# Altium footprint library Passivos_Ftp.PcbLib: 36 footprints (part 2 of 3)
Each footprint in its own frame and in the unit in brackets; x right, y up, seen from the top. Pads: shape width x height; smd on the part's side, far side on the other; paste and mask are expansions set on the pad; w line width, h text height; cw(c..) or ccw(c..) is an arc to the next point about the centre after c.
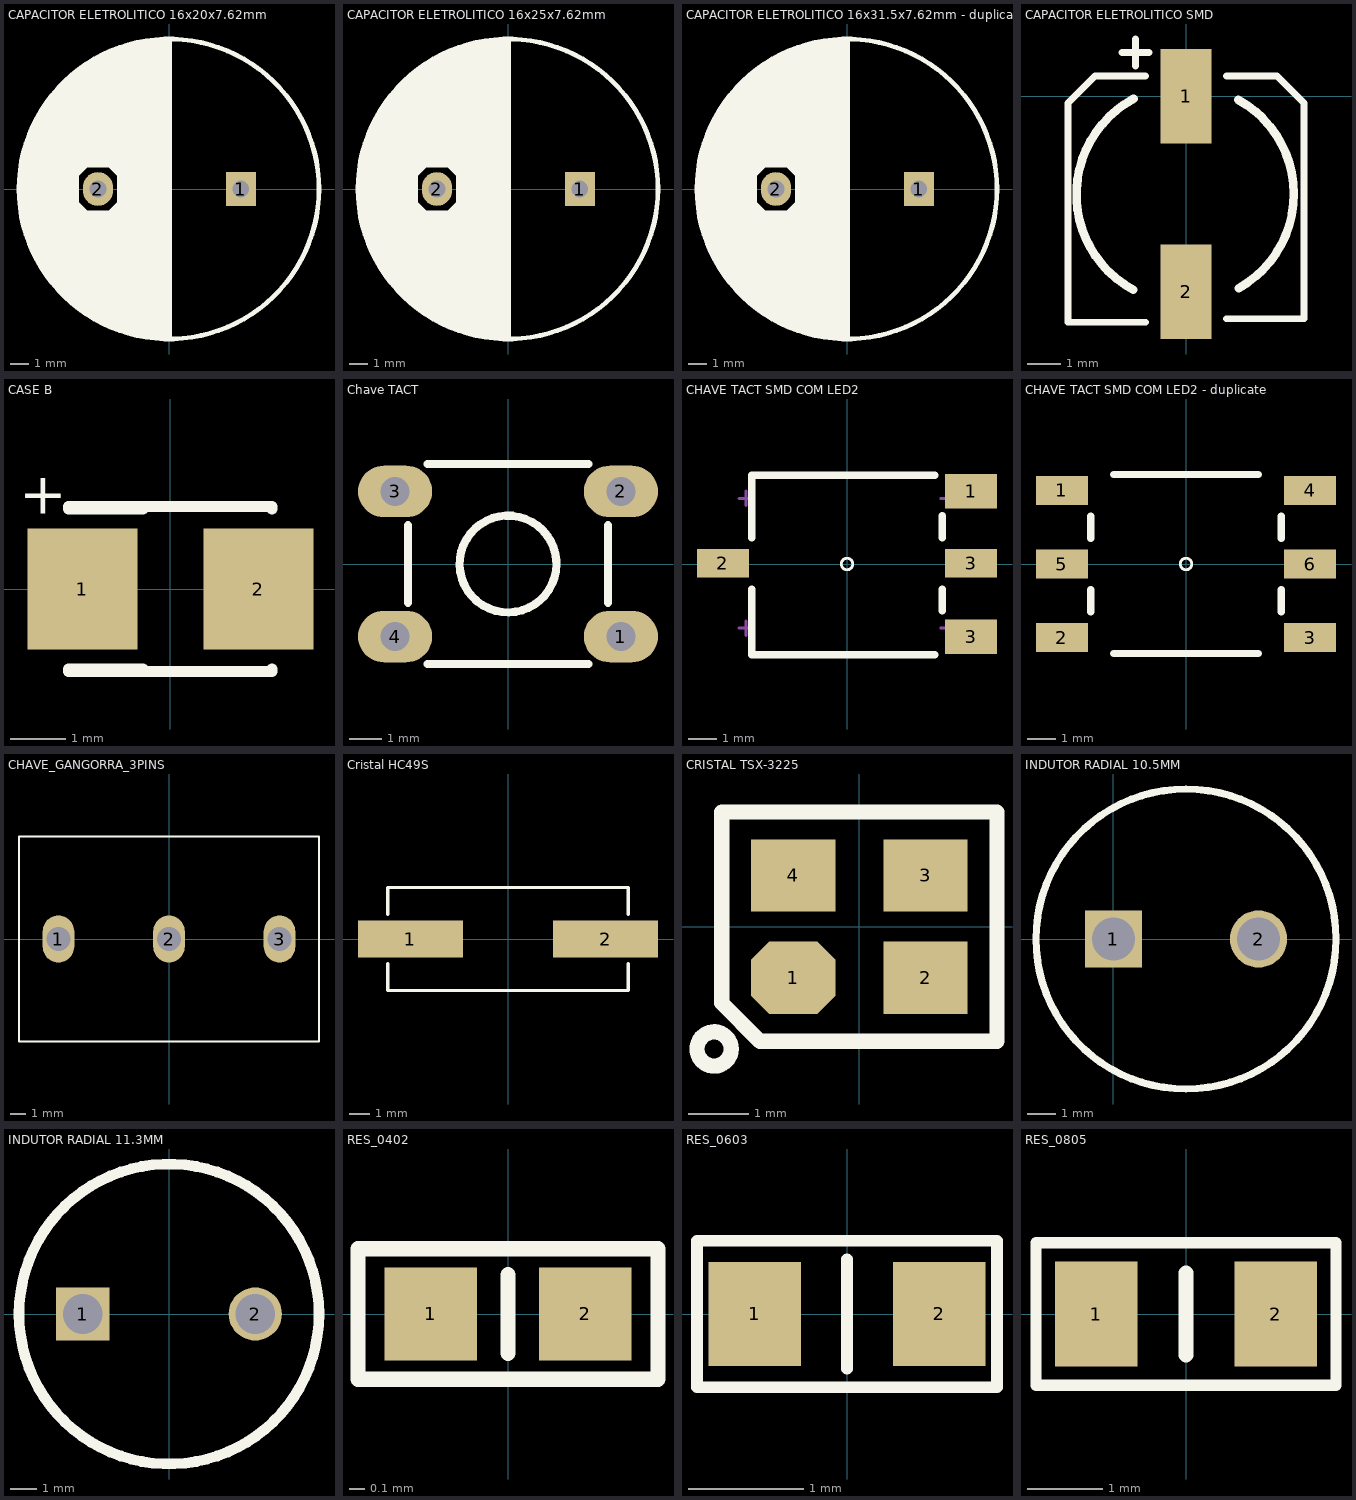
[diagram p1: the footprints below, top view; thin cyan lines are the x and y axes]

## CAPACITOR ELETROLITICO 16x20x7.62mm [mm] "Radial Capacitor 16x20x5.08mm"
height 20
pads (2):
  rect 1.6x1.8 hole 0.9: 1(3.81,0)
  oval 1.6x1.8 hole 0.9: 2(-3.81,0)
Top Overlay:
  circle w0.254: c-0.02,0 r8
  region: 0,-8 0,0 -2.667,0 -2.667,-0.762 -3.175,-1.27 -4.445,-1.27 -4.953,-0.762 -4.953,0.762 -4.445,1.27 -3.176,1.27 -2.667,0.761 -2.667,0 0,0 0,8 -0.889,8.001 -1.016,7.874 -1.778,7.874 -1.905,7.747 -2.159,7.747 -2.286,7.62 -2.667,7.62 -2.794,7.493 -2.921,7.493 -3.048,7.366 -3.302,7.366 -3.556,7.112 -3.81,7.112 -4.191,6.731 -4.445,6.731 -4.953,6.223 -5.08,6.223 -6.477,4.826 -6.477,4.572 -6.985,4.064 -6.985,3.81 -7.239,3.556 -7.239,3.302 -7.493,3.048 -7.493,2.667 -7.747,2.413 -7.747,1.778 -7.874,1.651 -7.874,1.016 -8.001,0.889 -8.001,-1.016 -7.874,-1.143 -7.874,-1.778 -7.747,-1.905 -7.747,-2.286 -7.62,-2.286 -7.62,-2.667 -7.493,-2.667 -7.493,-3.048 -7.366,-3.048 -7.366,-3.302 -7.239,-3.302 -7.239,-3.556 -7.112,-3.556 -7.112,-3.683 -6.985,-3.81 -6.985,-4.064 -6.858,-4.064 -6.858,-4.191 -6.731,-4.191 -6.731,-4.445 -6.35,-4.826 -6.35,-4.953 -4.826,-6.477 -4.572,-6.477 -4.064,-6.985 -3.81,-6.985 -3.556,-7.239 -3.302,-7.239 -3.048,-7.493 -2.794,-7.493 -2.667,-7.62 -2.286,-7.62 -2.159,-7.747 -1.905,-7.747 -1.778,-7.874 -1.27,-7.874 -1.143,-8.001
  lines w0.254: 0,-8 0,8 ; -4.953,-0.762 -4.445,-1.27 -3.175,-1.27 -2.667,-0.762 -2.667,0.762 -3.175,1.27 -4.445,1.27 -4.953,0.762 -4.953,-0.762
3D body: height 20.06, standoff -2.95, extent -8.01,-8 8,8

## CAPACITOR ELETROLITICO 16x25x7.62mm [mm] "Radial Capacitor 16x25x7.62mm"
height 25
pads (2):
  rect 1.6x1.8 hole 0.9: 1(3.81,0)
  oval 1.6x1.8 hole 0.9: 2(-3.81,0)
Top Overlay:
  circle w0.254: c-0.02,0 r8
  region: 0,-8 0,0 -2.667,0 -2.667,-0.762 -3.175,-1.27 -4.445,-1.27 -4.953,-0.762 -4.953,0.762 -4.445,1.27 -3.176,1.27 -2.667,0.761 -2.667,0 0,0 0,8 -0.889,8.001 -1.016,7.874 -1.778,7.874 -1.905,7.747 -2.159,7.747 -2.286,7.62 -2.667,7.62 -2.794,7.493 -2.921,7.493 -3.048,7.366 -3.302,7.366 -3.556,7.112 -3.81,7.112 -4.191,6.731 -4.445,6.731 -4.953,6.223 -5.08,6.223 -6.477,4.826 -6.477,4.572 -6.985,4.064 -6.985,3.81 -7.239,3.556 -7.239,3.302 -7.493,3.048 -7.493,2.667 -7.747,2.413 -7.747,1.778 -7.874,1.651 -7.874,1.016 -8.001,0.889 -8.001,-1.016 -7.874,-1.143 -7.874,-1.778 -7.747,-1.905 -7.747,-2.286 -7.62,-2.286 -7.62,-2.667 -7.493,-2.667 -7.493,-3.048 -7.366,-3.048 -7.366,-3.302 -7.239,-3.302 -7.239,-3.556 -7.112,-3.556 -7.112,-3.683 -6.985,-3.81 -6.985,-4.064 -6.858,-4.064 -6.858,-4.191 -6.731,-4.191 -6.731,-4.445 -6.35,-4.826 -6.35,-4.953 -4.826,-6.477 -4.572,-6.477 -4.064,-6.985 -3.81,-6.985 -3.556,-7.239 -3.302,-7.239 -3.048,-7.493 -2.794,-7.493 -2.667,-7.62 -2.286,-7.62 -2.159,-7.747 -1.905,-7.747 -1.778,-7.874 -1.27,-7.874 -1.143,-8.001
  lines w0.254: 0,-8 0,8 ; -4.953,-0.762 -4.445,-1.27 -3.175,-1.27 -2.667,-0.762 -2.667,0.762 -3.175,1.27 -4.445,1.27 -4.953,0.762 -4.953,-0.762
3D body: height 25.01, standoff -3, extent -8.01,-8 8,8

## CAPACITOR ELETROLITICO 16x31.5x7.62mm - duplicate [mm] "Radial Capacitor 16x31.5x7.62mm"
height 31.5
pads (2):
  rect 1.6x1.8 hole 0.9: 1(3.81,0)
  oval 1.6x1.8 hole 0.9: 2(-3.81,0)
Top Overlay:
  circle w0.254: c-0.02,0 r8
  region: 0,-8 0,0 -2.667,0 -2.667,-0.762 -3.175,-1.27 -4.445,-1.27 -4.953,-0.762 -4.953,0.762 -4.445,1.27 -3.176,1.27 -2.667,0.761 -2.667,0 0,0 0,8 -0.889,8.001 -1.016,7.874 -1.778,7.874 -1.905,7.747 -2.159,7.747 -2.286,7.62 -2.667,7.62 -2.794,7.493 -2.921,7.493 -3.048,7.366 -3.302,7.366 -3.556,7.112 -3.81,7.112 -4.191,6.731 -4.445,6.731 -4.953,6.223 -5.08,6.223 -6.477,4.826 -6.477,4.572 -6.985,4.064 -6.985,3.81 -7.239,3.556 -7.239,3.302 -7.493,3.048 -7.493,2.667 -7.747,2.413 -7.747,1.778 -7.874,1.651 -7.874,1.016 -8.001,0.889 -8.001,-1.016 -7.874,-1.143 -7.874,-1.778 -7.747,-1.905 -7.747,-2.286 -7.62,-2.286 -7.62,-2.667 -7.493,-2.667 -7.493,-3.048 -7.366,-3.048 -7.366,-3.302 -7.239,-3.302 -7.239,-3.556 -7.112,-3.556 -7.112,-3.683 -6.985,-3.81 -6.985,-4.064 -6.858,-4.064 -6.858,-4.191 -6.731,-4.191 -6.731,-4.445 -6.35,-4.826 -6.35,-4.953 -4.826,-6.477 -4.572,-6.477 -4.064,-6.985 -3.81,-6.985 -3.556,-7.239 -3.302,-7.239 -3.048,-7.493 -2.794,-7.493 -2.667,-7.62 -2.286,-7.62 -2.159,-7.747 -1.905,-7.747 -1.778,-7.874 -1.27,-7.874 -1.143,-8.001
  lines w0.254: 0,-8 0,8 ; -4.953,-0.762 -4.445,-1.27 -3.175,-1.27 -2.667,-0.762 -2.667,0.762 -3.175,1.27 -4.445,1.27 -4.953,0.762 -4.953,-0.762
3D body: height 31.61, standoff -2.9, extent -8.01,-8 8,8

## CAPACITOR ELETROLITICO SMD [mm]
pads (2):
  rect 1.5x2.8 smd: 1(0,0) 2(0,-5.8)
Top Overlay:
  lines w0.2: -3.5,-0.2 -3.5,-6.7 -1.2,-6.7 ; -1.9,1.3 -1.1,1.3 ; -1.5,0.9 -1.5,1.7 ; 1.2,-6.6 3.5,-6.6 ; 3.5,-6.55 3.5,-0.2
  lines w0.203: -3.5,-0.2 -2.7,0.6 -1.2,0.6 ; 1.2,0.6 2.7,0.6 3.5,-0.2
  lines w0.254: -1.563,-5.744 cw(c-0.031,-2.912) -1.558,-0.077 ; 1.546,-0.098 cw(c0,-2.9) 1.564,-5.692
3D body: height 8.11, standoff 0, extent -3.3,-6.4 3.3,0.6

## CASE B [mm] "Capacitor Tantalum; Body 3.5 x 2.8 mm"
height 2.5
pads (2):
  rect 2x2.2 smd: 1(-1.6,0) 2(1.6,0)
Top Overlay:
  lines w0.2: -1.85,-1.5 1.85,-1.5 1.85,-1.45 ; -1.85,-1.45 -0.5,-1.45 ; -1.85,1.45 -0.5,1.45 ; -1.85,1.5 1.85,1.5 1.85,1.45
  text "+" at -2.75,1.11 h1.3
3D body: height 2.06, standoff -0.04, extent -1.85,-1.397 1.85,1.603

## Chave TACT [mm]
pads (4):
  oval 2.3x1.6 hole 0.9: 1(3.5,-2.25) 2(3.5,2.25) 3(-3.5,2.25) 4(-3.5,-2.25)
Top Overlay:
  lines w0.254: -3.1,-1.2 -3.1,1.2 ; -2.5,-3.1 2.5,-3.1 ; -2.5,3.1 2.5,3.1 ; 1.497,0.094 ccw(c0,0) 1.5,0 ; 3.1,-1.2 3.1,1.2
3D body: height 8.2, standoff -3.8, extent -3.4,-3.1 3.4,3.1

## CHAVE TACT SMD COM LED2 [mm]
pads (4):
  rect 1.8x1.2 smd: 1(4.3,2.525) 3(4.3,-2.525)
  rect 1.8x1 smd: 2(-4.3,0.025) 3(4.3,0.025)
Top Overlay:
  lines w0.1: -0.2,-0.012 ccw(c0,0) -0.2,0
  lines w0.254: -3.302,-0.864 -3.302,-3.15 3.048,-3.15 ; -3.302,0.914 -3.302,3.073 3.048,3.073 ; 3.302,-1.626 3.302,-0.864 ; 3.302,0.914 3.302,1.676
Mechanical 2:
  lines w0.1: -3.75,-2.225 -3.25,-2.225 ; -3.75,2.275 -3.25,2.275 ; -3.5,-2.475 -3.5,-1.975 ; -3.5,2.025 -3.5,2.525 ; 3.25,-2.225 3.75,-2.225 ; 3.25,2.275 3.75,2.275 ; 3.5,-2.475 3.5,-1.975 ; 3.5,2.025 3.5,2.525

## CHAVE TACT SMD COM LED2 - duplicate [mm]
pads (6):
  rect 1.8x1 smd: 1(-4.3,2.55) 2(-4.3,-2.55) 3(4.3,-2.55) 4(4.3,2.55) 5(-4.3,0) 6(4.3,0)
Top Overlay:
  lines w0.1: -0.2,-0.012 ccw(c0,0) -0.2,0
  lines w0.254: -3.302,-1.651 -3.302,-0.889 ; -3.302,0.889 -3.302,1.651 ; -2.5,-3.1 2.5,-3.1 ; -2.5,3.1 2.5,3.1 ; 3.302,-1.651 3.302,-0.889 ; 3.302,0.889 3.302,1.651

## CHAVE_GANGORRA_3PINS [mm]
pads (3):
  oval 2x3 hole 1.5: 1(-7,0) 2(0,0) 3(7,0)
Top Overlay:
  lines w0.127: -9.5,-6.5 9.5,-6.5 9.5,6.5 -9.5,6.5 -9.5,-6.5

## Cristal HC49S [mm]
pads (2):
  rect 5.1x1.8 smd: 1(-4.76,0) 2(4.74,0)
Top Overlay:
  lines w0.152: -5.86,-1.2 -5.86,-2.5 5.84,-2.5 5.84,-1.2 ; -5.86,1.2 -5.86,2.5 5.84,2.5 5.84,1.2
3D body: height 4.3, standoff 0, extent -6.4,-2.415 6.4,2.415

## CRISTAL TSX-3225 [mm]
height 0.6
pads (4):
  oct 1.4x1.2 smd mask+0.102: 1(-1.1,-0.85)
  rect 1.4x1.2 smd: 2(1.1,-0.85) 3(1.1,0.85) 4(-1.1,0.85)
Top Overlay:
  circle w0.254: c-2.413,-2.032 r0.284
  lines w0.254: -2.286,-1.27 -1.651,-1.905 2.286,-1.905 2.286,1.905 -2.286,1.905 -2.286,-1.27
3D body: height 0.61, standoff 0, extent -1.6,-1.23 1.6,1.27

## INDUTOR RADIAL 10.5MM [mm]
pads (2):
  rect 2x2 hole 1.5: 1(0,0)
  round 2 hole 1.5: 2(5.08,0)
Top Overlay:
  lines w0.254: -2.71,0 ccw(c2.54,0) 7.79,0 ccw(c2.54,0) -2.71,0
3D body: height 12.03, standoff -3.97, extent -2.46,-5.365 7.54,4.635

## INDUTOR RADIAL 11.3MM [mm]
pads (2):
  rect 2x2 hole 1.5: 1(-3.25,0)
  round 2 hole 1.5: 2(3.25,0)
Top Overlay:
  circle w0.4: c0,0 r5.65

## RES_0402 [mm] "Chip Resistor, Body 1.0x0.5mm, IPC High Density"
height 1.3
pads (2):
  rect 0.6x0.6 smd: 1(-0.5,0) 2(0.5,0)
Top Overlay:
  lines w0.1: 0,-0.254 0,0.254 ; -0.97,-0.423 -0.97,0.423 0.97,0.423 0.97,-0.423 -0.97,-0.423
3D body: height 0.34, standoff 0, extent -0.52,-0.3 0.52,0.3

## RES_0603 [mm]
pads (2):
  rect 0.8x0.9 smd: 1(-0.8,0) 2(0.8,0)
Top Overlay:
  lines w0.1: 0,-0.475 0,0.475 ; -1.3,-0.635 1.3,-0.635 1.3,0.635 -1.3,0.635 -1.3,-0.635
3D body: height 0.5, standoff 0, extent -0.8,-0.45 0.8,0.45

## RES_0805 [mm]
pads (2):
  rect 1.1x1.4 smd: 1(-1.2,0) 2(1.2,0)
Top Overlay:
  lines w0.152: -2,-0.95 -2,0.95 2,0.95 2,-0.95 -2,-0.95
  lines w0.2: 0,-0.55 0,0.55
3D body: height 0.75, standoff 0, extent -1.15,-0.675 1.15,0.675